# Altium integrated library Libreria-Conectores.IntLib: 83 symbols
Pins are listed as number, name and electrical type; pins without a type are passive.

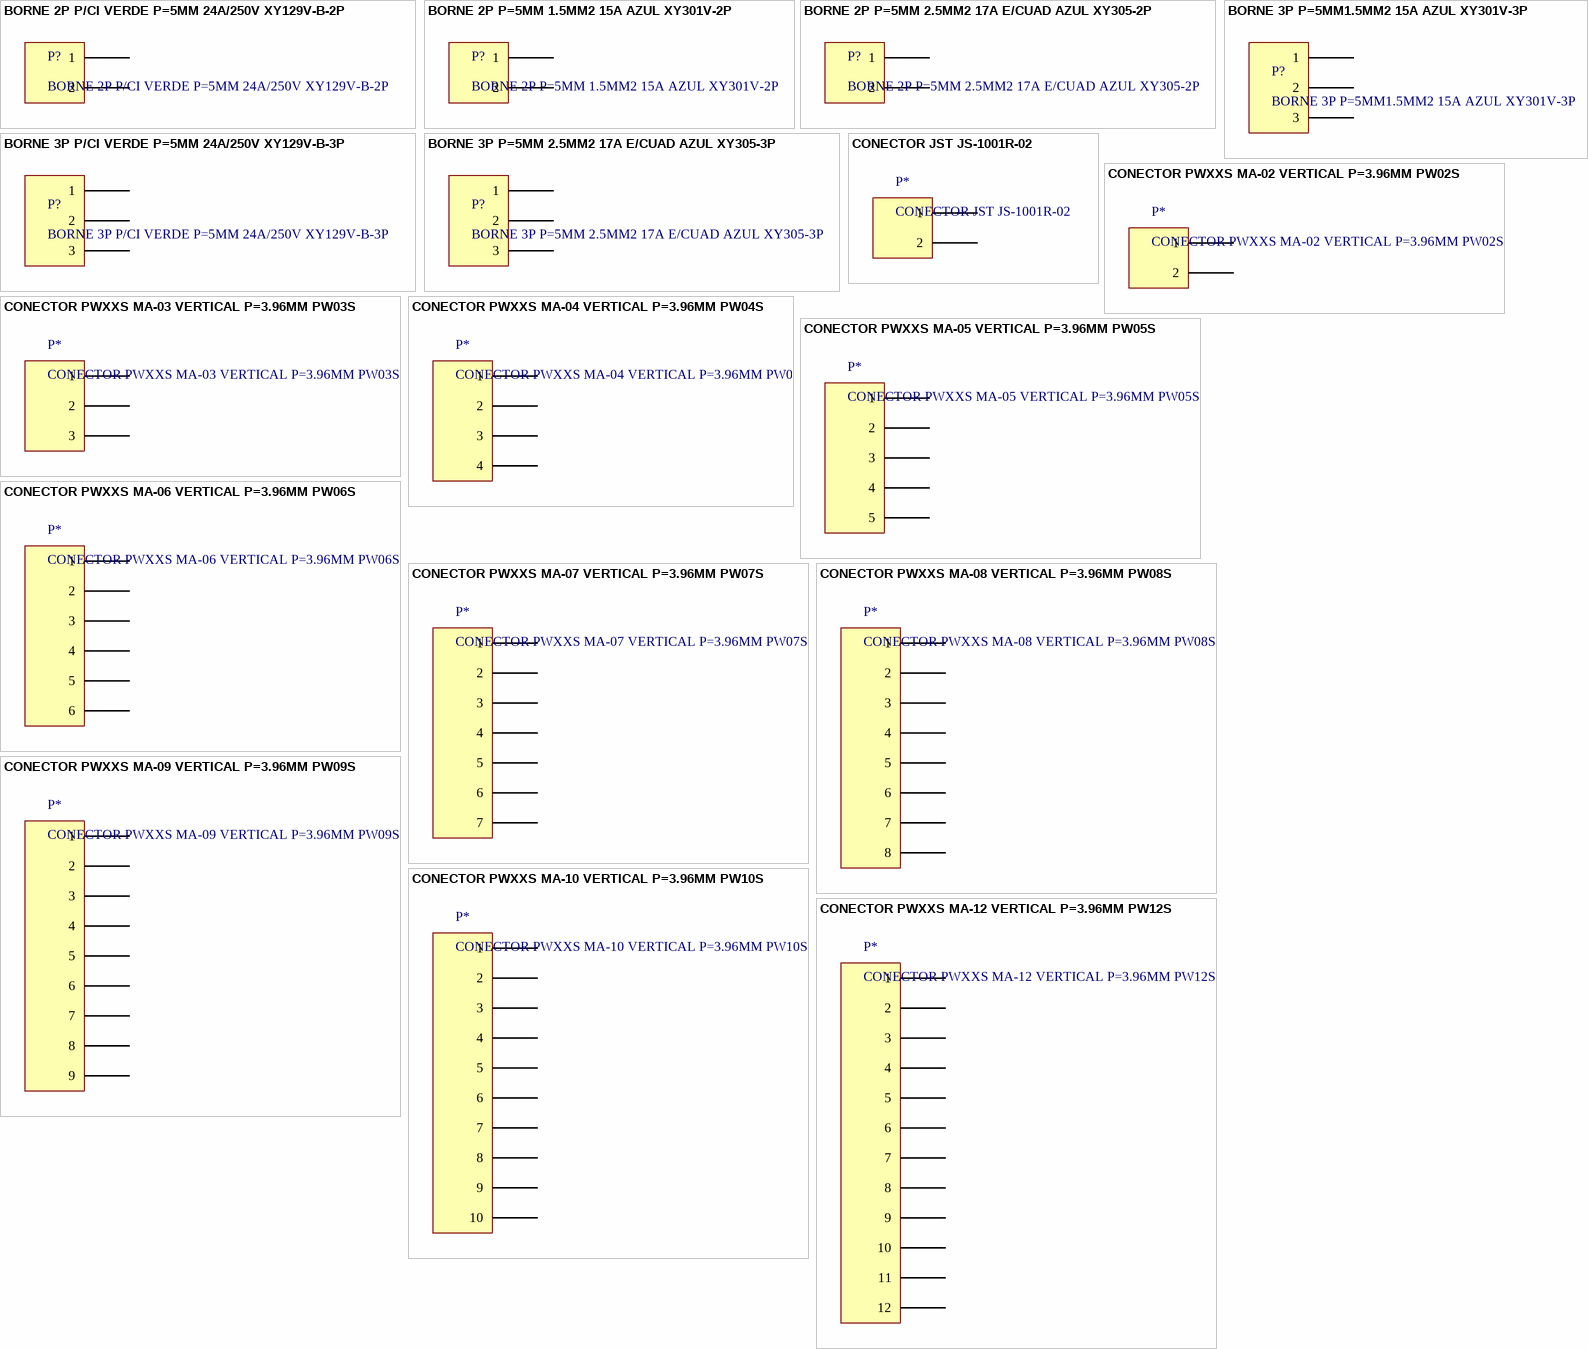
[diagram p0: symbols BORNE 2P P/CI VERDE P=5MM 24A/250V XY129V-B-2P to CONECTOR PWXXS MA-12 VERTICAL P=3.96MM PW12S]

## BORNE 2P P/CI VERDE P=5MM 24A/250V XY129V-B-2P
designator P?
COD. ELEMON: BO5811850
footprint CON-BOR-X2-5MM (Bornera X2 5MM)
pins: 1, 2

## BORNE 2P P=5MM 1.5MM2 15A AZUL XY301V-2P
designator P?
COD. ELEMON: BO5812000
footprint CON-BOR-X2-5MM (Bornera X2 5MM)
pins: 1, 2

## BORNE 2P P=5MM 2.5MM2 17A E/CUAD AZUL XY305-2P
designator P?
COD. ELEMON: BO5811900
footprint CON-BOR-X2-5MM (Bornera X2 5MM)
pins: 1, 2

## BORNE 3P P/CI VERDE P=5MM 24A/250V XY129V-B-3P
designator P?
COD. ELEMON: BO5811860
footprint CON BOR X3 5MM (Bornera X3 5MM)
pins: 1, 2, 3

## BORNE 3P P=5MM1.5MM2 15A AZUL XY301V-3P
designator P?
COD. ELEMON: BO5812100
footprint CON BOR X3 5MM (Bornera X3 5MM)
pins: 1, 2, 3

## BORNE 3P P=5MM 2.5MM2 17A E/CUAD AZUL XY305-3P
designator P?
COD. ELEMON: BO5811910
footprint CON BOR X3 5MM (Bornera X3 5MM)
pins: 1, 2, 3

## CONECTOR JST JS-1001R-02
designator P*
footprint JST JS-1001R-02
pins: 1, 2

## CONECTOR PWXXS MA-02 VERTICAL P=3.96MM PW02S
designator P*
COD. ELEMON: CO5052000; COD. FV: CE.CON.0012
footprint CONECTOR PWXXS MA-02 VERTICAL P=3.96MM (CONECTOR PWXXS VERTICAL P=3.96MM)
pins: 1, 2

## CONECTOR PWXXS MA-03 VERTICAL P=3.96MM PW03S
designator P*
COD. ELEMON: CO5052020
footprint CONECTOR PWXXS MA-03 VERTICAL P=3.96MM (CONECTOR PWXXS VERTICAL P=3.96MM)
pins: 1, 2, 3

## CONECTOR PWXXS MA-04 VERTICAL P=3.96MM PW04S
designator P*, comment CONECTOR PWXXS MA-04 VERTICAL P=3.96MM PW0
COD. ELEMON: CO5052040; COD. FV: CE.CON.0013
footprint CONECTOR PWXXS MA-04 VERTICAL P=3.96MM (CONECTOR PWXXS VERTICAL P=3.96MM)
pins: 1, 2, 3, 4

## CONECTOR PWXXS MA-05 VERTICAL P=3.96MM PW05S
designator P*
COD. ELEMON: CO5052060
footprint CONECTOR PWXXS MA-05 VERTICAL P=3.96MM (CONECTOR PWXXS VERTICAL P=3.96MM)
pins: 1, 2, 3, 4, 5

## CONECTOR PWXXS MA-06 VERTICAL P=3.96MM PW06S
designator P*
COD. ELEMON: CO5052080
footprint CONECTOR PWXXS MA-06 VERTICAL P=3.96MM (CONECTOR PWXXS VERTICAL P=3.96MM)
pins: 1, 2, 3, 4, 5, 6

## CONECTOR PWXXS MA-07 VERTICAL P=3.96MM PW07S
designator P*
COD. ELEMON: CO5052100
footprint CONECTOR PWXXS MA-07 VERTICAL P=3.96MM (CONECTOR PWXXS VERTICAL P=3.96MM)
pins: 1, 2, 3, 4, 5, 6, 7

## CONECTOR PWXXS MA-08 VERTICAL P=3.96MM PW08S
designator P*
COD. ELEMON: CO5052120; COD. FV: CE.CON.0014
footprint CONECTOR PWXXS MA-08 VERTICAL P=3.96MM (CONECTOR PWXXS VERTICAL P=3.96MM)
pins: 1, 2, 3, 4, 5, 6, 7, 8

## CONECTOR PWXXS MA-09 VERTICAL P=3.96MM PW09S
designator P*
COD. ELEMON: CO5052140
footprint CONECTOR PWXXS MA-09 VERTICAL P=3.96MM (CONECTOR PWXXS VERTICAL P=3.96MM)
pins: 1, 2, 3, 4, 5, 6, 7, 8, 9

## CONECTOR PWXXS MA-10 VERTICAL P=3.96MM PW10S
designator P*
COD. ELEMON: CO5052160
footprint CONECTOR PWXXS MA-10 VERTICAL P=3.96MM (CONECTOR PWXXS VERTICAL P=3.96MM)
pins: 1, 2, 3, 4, 5, 6, 7, 8, 9, 10

## CONECTOR PWXXS MA-12 VERTICAL P=3.96MM PW12S
designator P*
COD. ELEMON: CO5052190
footprint CONECTOR PWXXS MA-12 VERTICAL P=3.96MM (CONECTOR PWXXS VERTICAL P=3.96MM)
pins: 1, 2, 3, 4, 5, 6, 7, 8, 9, 10, 11, 12

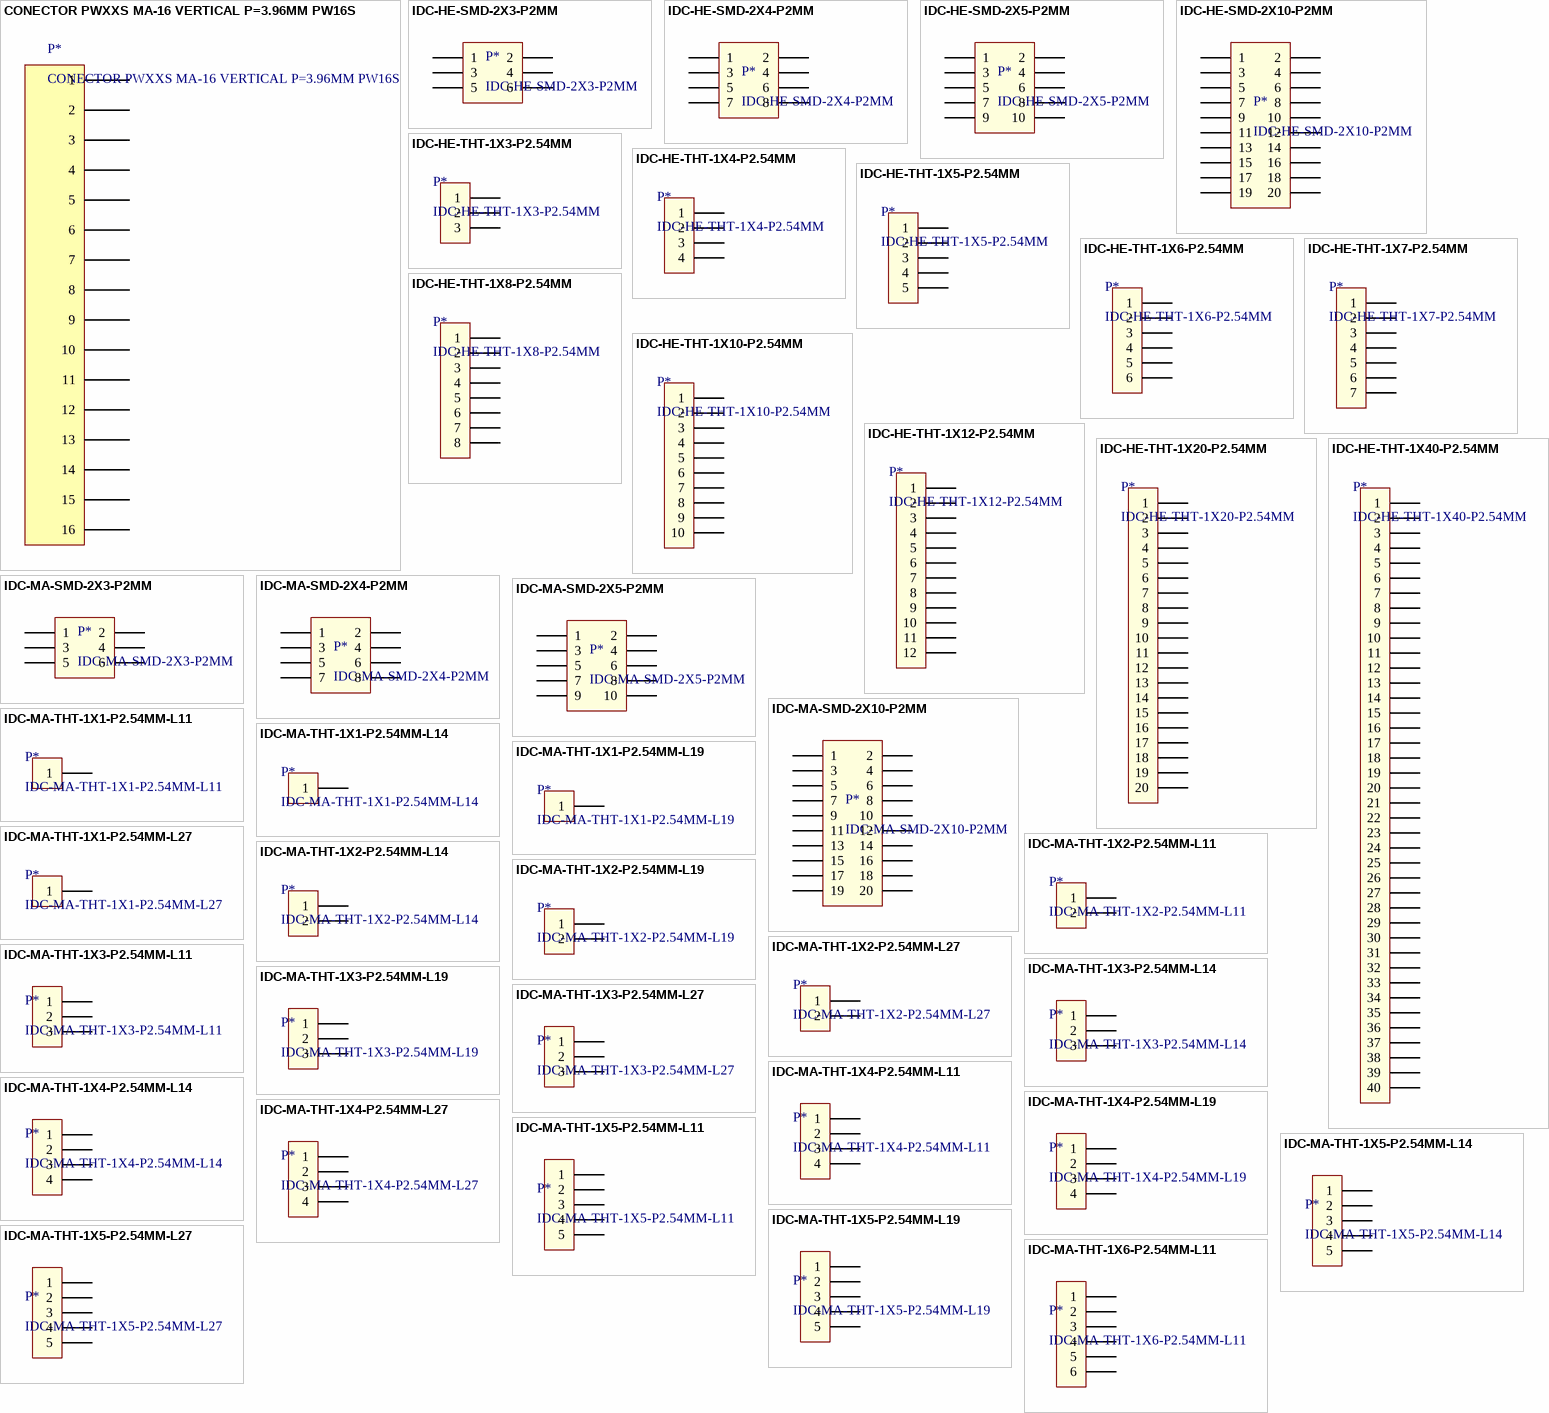
[diagram p1: symbols CONECTOR PWXXS MA-16 VERTICAL P=3.96MM PW16S to IDC-MA-THT-1X6-P2.54MM-L11]

## CONECTOR PWXXS MA-16 VERTICAL P=3.96MM PW16S
designator P*
COD. ELEMON: CO5052210
footprint CONECTOR PWXXS MA-16 VERTICAL P=3.96MM (CONECTOR PWXXS VERTICAL P=3.96MM)
pins: 1, 2, 3, 4, 5, 6, 7, 8, 9, 10, 11, 12, 13, 14, 15, 16

## IDC-HE-SMD-2X3-P2MM
designator P*
COD. ELEMON: CO496C06
footprint IDC-HE-SMD-2X3-P2MM
pins: 1, 2, 3, 4, 5, 6

## IDC-HE-SMD-2X4-P2MM
designator P*
COD. ELEMON: CO496C08
footprint IDC-HE-SMD-2X4-P2MM
pins: 1, 2, 3, 4, 5, 6, 7, 8

## IDC-HE-SMD-2X5-P2MM
designator P*
COD. ELEMON: CO496C10
footprint IDC-HE-SMD-2X5-P2MM
pins: 1, 2, 3, 4, 5, 6, 7, 8, 9, 10

## IDC-HE-SMD-2X10-P2MM
designator P*
COD. ELEMON: CO496C20
footprint IDC-HE-SMD-2X10-P2MM
pins: 1, 2, 3, 4, 5, 6, 7, 8, 9, 10, 11, 12, 13, 14, 15, 16, 17, 18, 19, 20

## IDC-HE-THT-1X3-P2.54MM
designator P*
COD. ELEMON: CO5001075; COD. SYC: PB03S
footprint IDC-HE-THT-1X3-P2.54MM
pins: 1, 2, 3

## IDC-HE-THT-1X4-P2.54MM
designator P*
COD. ELEMON: CO5001085; COD. SYC: PB04S
footprint IDC-HE-THT-1X4-P2.54MM
pins: 1, 2, 3, 4

## IDC-HE-THT-1X5-P2.54MM
designator P*
COD. ELEMON: CO5001095; COD. SYC: PB05S
footprint IDC-HE-THT-1X5-P2.54MM
pins: 1, 2, 3, 4, 5

## IDC-HE-THT-1X6-P2.54MM
designator P*
COD. ELEMON: CO5001100
footprint IDC-HE-THT-1X6-P2.54MM
pins: 1, 2, 3, 4, 5, 6

## IDC-HE-THT-1X7-P2.54MM
designator P*
COD. SYC: PB07S
footprint IDC-HE-THT-1X7-P2.54MM
pins: 1, 2, 3, 4, 5, 6, 7

## IDC-HE-THT-1X8-P2.54MM
designator P*
COD. SYC: PB08S
footprint IDC-HE-THT-1X8-P2.54MM
pins: 1, 2, 3, 4, 5, 6, 7, 8

## IDC-HE-THT-1X10-P2.54MM
designator P*
COD. ELEMON: CO5001108; COD. SYC: PB10S
footprint IDC-HE-THT-1X10-P2.54MM
pins: 1, 2, 3, 4, 5, 6, 7, 8, 9, 10

## IDC-HE-THT-1X12-P2.54MM
designator P*
COD. ELEMON: CO5001110; COD. SYC: PB12S
footprint IDC-HE-THT-1X12-P2.54MM
pins: 1, 2, 3, 4, 5, 6, 7, 8, 9, 10, 11, 12

## IDC-HE-THT-1X20-P2.54MM
designator P*
COD. SYC: PB20S
footprint IDC-HE-THT-1X20-P2.54MM
pins: 1, 2, 3, 4, 5, 6, 7, 8, 9, 10, 11, 12, 13, 14, 15, 16, 17, 18, 19, 20

## IDC-HE-THT-1X40-P2.54MM
designator P*
COD. ELEMON: CO5001118
footprint IDC-HE-THT-1X40-P2.54MM
pins: 1, 2, 3, 4, 5, 6, 7, 8, 9, 10, 11, 12, 13, 14, 15, 16, 17, 18, 19, 20, 21, 22, 23, 24, 25, 26, 27, 28, 29, 30, 31, 32, 33, 34, 35, 36, 37, 38, 39, 40

## IDC-MA-SMD-2X3-P2MM
designator P*
COD. ELEMON: CO496D80
footprint IDC-HE-SMD-2X3-P2MM
pins: 1, 2, 3, 4, 5, 6

## IDC-MA-SMD-2X4-P2MM
designator P*
COD. ELEMON: CO496C08
footprint IDC-MA-SMD-2X4-P2MM
pins: 1, 2, 3, 4, 5, 6, 7, 8

## IDC-MA-SMD-2X5-P2MM
designator P*
COD. ELEMON: CO496C10
footprint IDC-MA-SMD-2X5-P2MM
pins: 1, 2, 3, 4, 5, 6, 7, 8, 9, 10

## IDC-MA-SMD-2X10-P2MM
designator P*
COD. ELEMON: CO496C20
footprint IDC-MA-SMD-2X10-P2MM
pins: 1, 2, 3, 4, 5, 6, 7, 8, 9, 10, 11, 12, 13, 14, 15, 16, 17, 18, 19, 20

## IDC-MA-THT-1X1-P2.54MM-L11
designator P*
COD. ELEMON: CO496C20
footprint IDC-MA-THT-1X1-P2.54MM-L11
pins: 1

## IDC-MA-THT-1X1-P2.54MM-L14
designator P*
COD. SYC: PLS40-140
footprint IDC-MA-THT-1X1-P2.54MM-L14
pins: 1

## IDC-MA-THT-1X1-P2.54MM-L19
designator P*
COD. SYC: PLS40-195
footprint IDC-MA-THT-1X1-P2.54MM-L19
pins: 1

## IDC-MA-THT-1X1-P2.54MM-L27
designator P*
COD. SYC: PLS40-270
footprint IDC-MA-THT-1X1-P2.54MM-L27
pins: 1

## IDC-MA-THT-1X2-P2.54MM-L11
designator P*
COD. ELEMON: CO496C20
footprint IDC-MA-THT-1X2-P2.54MM-L11
pins: 1, 2

## IDC-MA-THT-1X2-P2.54MM-L14
designator P*
COD. SYC: PLS40-140
footprint IDC-MA-THT-1X2-P2.54MM-L14
pins: 1, 2

## IDC-MA-THT-1X2-P2.54MM-L19
designator P*
COD. ELEMON: PLS40-195
footprint IDC-MA-THT-1X2-P2.54MM-L19
pins: 1, 2

## IDC-MA-THT-1X2-P2.54MM-L27
designator P*
COD. SYC: PLS40-270
footprint IDC-MA-THT-1X2-P2.54MM-L27
pins: 1, 2

## IDC-MA-THT-1X3-P2.54MM-L11
designator P*
COD. ELEMON: CO496C20
footprint IDC-MA-THT-1X3-P2.54MM-L11
pins: 1, 2, 3

## IDC-MA-THT-1X3-P2.54MM-L14
designator P*
COD. SYC: PLS40-140
footprint IDC-MA-THT-1X3-P2.54MM-L14
pins: 1, 2, 3

## IDC-MA-THT-1X3-P2.54MM-L19
designator P*
COD. SYC: PLS40-195
footprint IDC-MA-THT-1X3-P2.54MM-L19
pins: 1, 2, 3

## IDC-MA-THT-1X3-P2.54MM-L27
designator P*
COD. SYC: PLS40-270
footprint IDC-MA-THT-1X3-P2.54MM-L27
pins: 1, 2, 3

## IDC-MA-THT-1X4-P2.54MM-L11
designator P*
COD. ELEMON: CO496C20
footprint IDC-MA-THT-1X4-P2.54MM-L11
pins: 1, 2, 3, 4

## IDC-MA-THT-1X4-P2.54MM-L14
designator P*
COD. SYC: PLS40-140
footprint IDC-MA-THT-1X4-P2.54MM-L14
pins: 1, 2, 3, 4

## IDC-MA-THT-1X4-P2.54MM-L19
designator P*
COD. SYC: PLS40-195
footprint IDC-MA-THT-1X4-P2.54MM-L19
pins: 1, 2, 3, 4

## IDC-MA-THT-1X4-P2.54MM-L27
designator P*
COD. SYC: PLS40-270
footprint IDC-MA-THT-1X4-P2.54MM-L27
pins: 1, 2, 3, 4

## IDC-MA-THT-1X5-P2.54MM-L11
designator P*
COD. ELEMON: CO496C20
footprint IDC-MA-THT-1X5-P2.54MM-L11
pins: 1, 2, 3, 4, 5

## IDC-MA-THT-1X5-P2.54MM-L14
designator P*
COD. SYC: PLS40-140
footprint IDC-MA-THT-1X5-P2.54MM-L14
pins: 1, 2, 3, 4, 5

## IDC-MA-THT-1X5-P2.54MM-L19
designator P*
COD. ELEMON: PLS40-195
footprint IDC-MA-THT-1X5-P2.54MM-L19
pins: 1, 2, 3, 4, 5

## IDC-MA-THT-1X5-P2.54MM-L27
designator P*
COD. SYC: PLS40-270
footprint IDC-MA-THT-1X5-P2.54MM-L27
pins: 1, 2, 3, 4, 5

## IDC-MA-THT-1X6-P2.54MM-L11
designator P*
COD. ELEMON: CO496C20
footprint IDC-MA-THT-1X6-P2.54MM-L11
pins: 1, 2, 3, 4, 5, 6

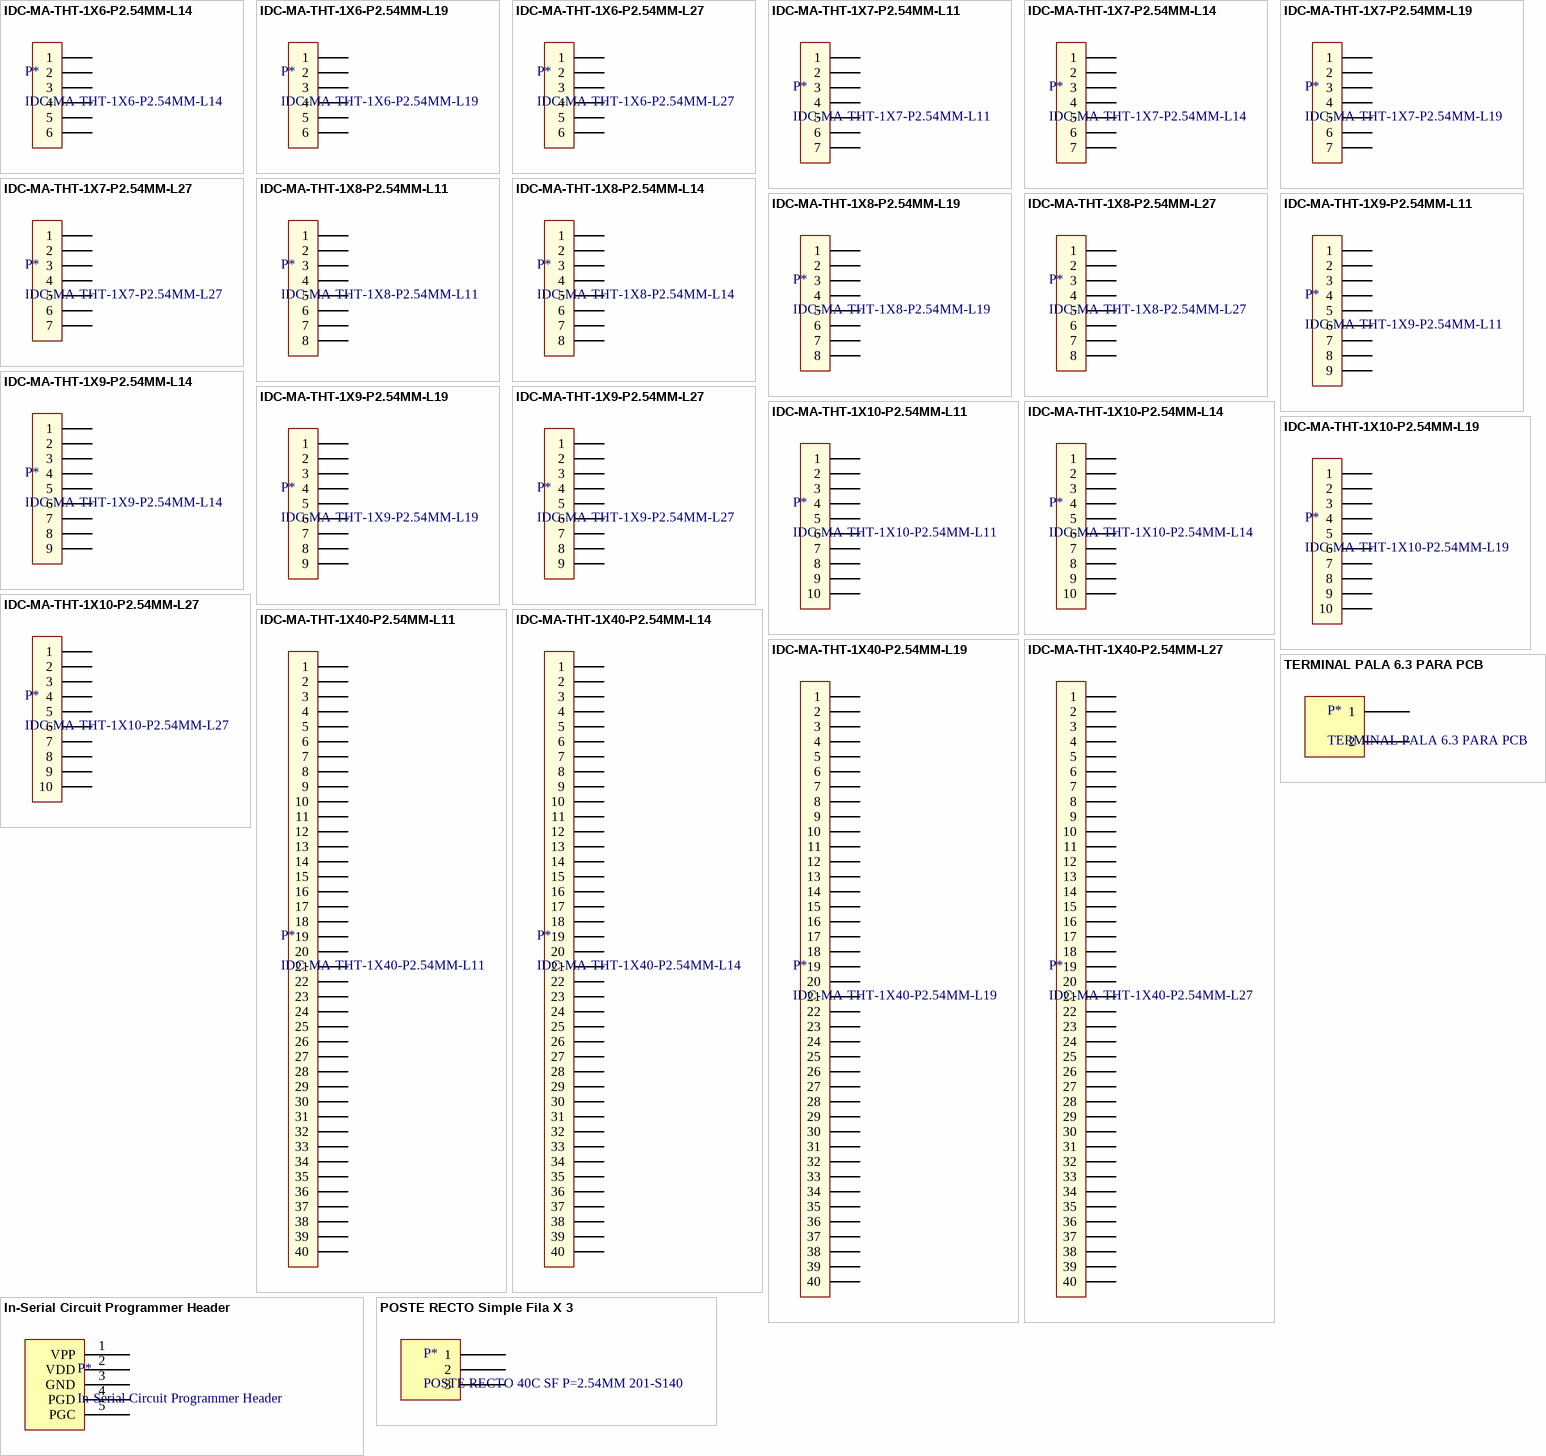
[diagram p2: symbols IDC-MA-THT-1X6-P2.54MM-L14 to TERMINAL PALA 6.3 PARA PCB]

## IDC-MA-THT-1X6-P2.54MM-L14
designator P*
COD. SYC: PLS40-140
footprint IDC-MA-THT-1X6-P2.54MM-L14
pins: 1, 2, 3, 4, 5, 6

## IDC-MA-THT-1X6-P2.54MM-L19
designator P*
COD. SYC: PLS40-195
footprint IDC-MA-THT-1X6-P2.54MM-L19
pins: 1, 2, 3, 4, 5, 6

## IDC-MA-THT-1X6-P2.54MM-L27
designator P*
COD. SYC: PLS40-270
footprint IDC-MA-THT-1X6-P2.54MM-L27
pins: 1, 2, 3, 4, 5, 6

## IDC-MA-THT-1X7-P2.54MM-L11
designator P*
COD. ELEMON: CO496C20
footprint IDC-MA-THT-1X7-P2.54MM-L11
pins: 1, 2, 3, 4, 5, 6, 7

## IDC-MA-THT-1X7-P2.54MM-L14
designator P*
COD. SYC: PLS40-140
footprint IDC-MA-THT-1X7-P2.54MM-L14
pins: 1, 2, 3, 4, 5, 6, 7

## IDC-MA-THT-1X7-P2.54MM-L19
designator P*
COD. SYC: PLS40-195
footprint IDC-MA-THT-1X7-P2.54MM-L19
pins: 1, 2, 3, 4, 5, 6, 7

## IDC-MA-THT-1X7-P2.54MM-L27
designator P*
COD. SYC: PLS40-270
footprint IDC-MA-THT-1X7-P2.54MM-L27
pins: 1, 2, 3, 4, 5, 6, 7

## IDC-MA-THT-1X8-P2.54MM-L11
designator P*
COD. ELEMON: CO496C20
footprint IDC-MA-THT-1X8-P2.54MM-L11
pins: 1, 2, 3, 4, 5, 6, 7, 8

## IDC-MA-THT-1X8-P2.54MM-L14
designator P*
COD. SYC: PLS40-140
footprint IDC-MA-THT-1X8-P2.54MM-L14
pins: 1, 2, 3, 4, 5, 6, 7, 8

## IDC-MA-THT-1X8-P2.54MM-L19
designator P*
COD. SYC: PLS40-195
footprint IDC-MA-THT-1X8-P2.54MM-L19
pins: 1, 2, 3, 4, 5, 6, 7, 8

## IDC-MA-THT-1X8-P2.54MM-L27
designator P*
COD. SYC: PLS40-270
footprint IDC-MA-THT-1X8-P2.54MM-L27
pins: 1, 2, 3, 4, 5, 6, 7, 8

## IDC-MA-THT-1X9-P2.54MM-L11
designator P*
COD. ELEMON: CO496C20
footprint IDC-MA-THT-1X9-P2.54MM-L11
pins: 1, 2, 3, 4, 5, 6, 7, 8, 9

## IDC-MA-THT-1X9-P2.54MM-L14
designator P*
COD. SYC: PLS40-140
footprint IDC-MA-THT-1X9-P2.54MM-L14
pins: 1, 2, 3, 4, 5, 6, 7, 8, 9

## IDC-MA-THT-1X9-P2.54MM-L19
designator P*
COD. SYC: PLS40-195
footprint IDC-MA-THT-1X9-P2.54MM-L19
pins: 1, 2, 3, 4, 5, 6, 7, 8, 9

## IDC-MA-THT-1X9-P2.54MM-L27
designator P*
COD. SYC: PLS40-270
footprint IDC-MA-THT-1X9-P2.54MM-L27
pins: 1, 2, 3, 4, 5, 6, 7, 8, 9

## IDC-MA-THT-1X10-P2.54MM-L11
designator P*
COD. ELEMON: CO496C20
footprint IDC-MA-THT-1X10-P2.54MM-L11
pins: 1, 2, 3, 4, 5, 6, 7, 8, 9, 10

## IDC-MA-THT-1X10-P2.54MM-L14
designator P*
COD. SYC: PLS40-140
footprint IDC-MA-THT-1X10-P2.54MM-L14
pins: 1, 2, 3, 4, 5, 6, 7, 8, 9, 10

## IDC-MA-THT-1X10-P2.54MM-L19
designator P*
COD. SYC: PLS40-195
footprint IDC-MA-THT-1X10-P2.54MM-L19
pins: 1, 2, 3, 4, 5, 6, 7, 8, 9, 10

## IDC-MA-THT-1X10-P2.54MM-L27
designator P*
COD. SYC: PLS40-270
footprint IDC-MA-THT-1X10-P2.54MM-L27
pins: 1, 2, 3, 4, 5, 6, 7, 8, 9, 10

## IDC-MA-THT-1X40-P2.54MM-L11
designator P*
COD. ELEMON: CO496C20
footprint IDC-MA-THT-1X40-P2.54MM-L11
pins: 1, 2, 3, 4, 5, 6, 7, 8, 9, 10, 11, 12, 13, 14, 15, 16, 17, 18, 19, 20, 21, 22, 23, 24, 25, 26, 27, 28, 29, 30, 31, 32, 33, 34, 35, 36, 37, 38, 39, 40

## IDC-MA-THT-1X40-P2.54MM-L14
designator P*
COD. SYC: PLS40-140
footprint IDC-MA-THT-1X40-P2.54MM-L14
pins: 1, 2, 3, 4, 5, 6, 7, 8, 9, 10, 11, 12, 13, 14, 15, 16, 17, 18, 19, 20, 21, 22, 23, 24, 25, 26, 27, 28, 29, 30, 31, 32, 33, 34, 35, 36, 37, 38, 39, 40

## IDC-MA-THT-1X40-P2.54MM-L19
designator P*
COD. SYC: PLS40-195
footprint IDC-MA-THT-1X40-P2.54MM-L19
pins: 1, 2, 3, 4, 5, 6, 7, 8, 9, 10, 11, 12, 13, 14, 15, 16, 17, 18, 19, 20, 21, 22, 23, 24, 25, 26, 27, 28, 29, 30, 31, 32, 33, 34, 35, 36, 37, 38, 39, 40

## IDC-MA-THT-1X40-P2.54MM-L27
designator P*
COD. SYC: PLS40-270
footprint IDC-MA-THT-1X40-P2.54MM-L27
pins: 1, 2, 3, 4, 5, 6, 7, 8, 9, 10, 11, 12, 13, 14, 15, 16, 17, 18, 19, 20, 21, 22, 23, 24, 25, 26, 27, 28, 29, 30, 31, 32, 33, 34, 35, 36, 37, 38, 39, 40

## In-Serial Circuit Programmer Header
designator P*
COD. ELEMON: CO4900906; COD. FV: CE.CON.0017
footprint PIC ICSP (In-Serial Circuit Programmer Header)
pins: 1 VPP, 2 VDD, 3 GND, 4 PGD, 5 PGC

## POSTE RECTO Simple Fila X 3
designator P*, comment POSTE RECTO 40C SF P=2.54MM 201-S140
COD. ELEMON: CO4901010
footprint CON-PIN-X3-CORTO (POSTE RECTO 40C SF P=2.54MM 201-S140)
pins: 1, 2, 3

## TERMINAL PALA 6.3 PARA PCB
designator P*
footprint TERMINAL PALA 6.3 (TERMINAL PALA 6.3 PARA PCB)
pins: 1, 2